# Altium footprint library ELEC(10.0X15.7)-TH.PcbLib: 1 footprints
Each footprint in its own frame and in the unit in brackets; x right, y up, seen from the top. Pads: shape width x height; smd on the part's side, far side on the other; paste and mask are expansions set on the pad; w line width, h text height; cw(c..) or ccw(c..) is an arc to the next point about the centre after c.
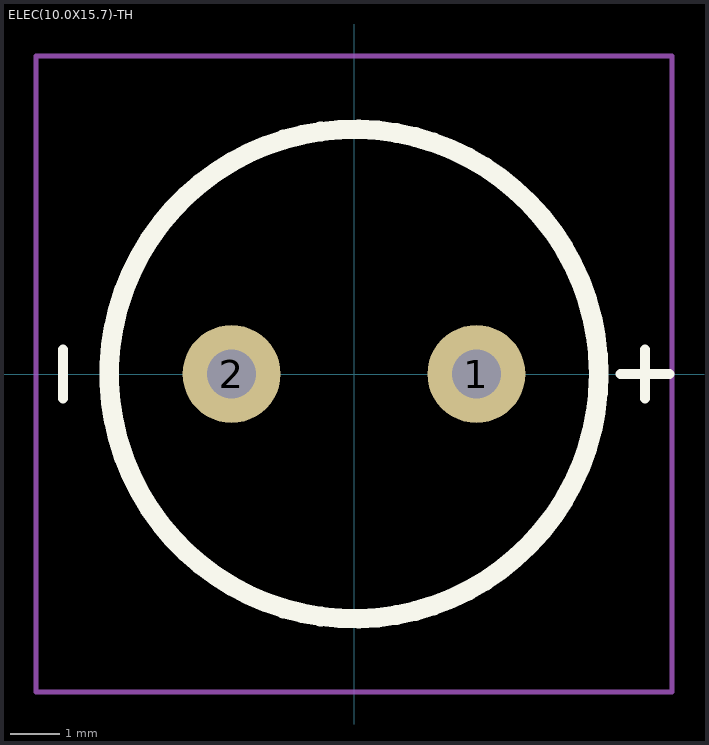
[diagram p0: the footprint, top view; thin cyan lines are the x and y axes]

## ELEC(10.0X15.7)-TH [mm]
pads (2):
  round 2 hole 1: 1(2.5,0) 2(-2.5,0)
Top Overlay:
  circle w0.4: c0,0 r5
  lines w0.2: -5.946,-0.5 -5.946,0.5 ; 5.446,0 6.446,0 ; 5.946,-0.5 5.946,0.5
Top Courtyard:
  lines w0.1: -6.5,-6.5 6.5,-6.5 6.5,6.5 -6.5,6.5 -6.5,-6.5
3D body "猞10 SIZE CODE G16-L.stp": height 15.7, standoff -17, extent -5,-5 5,5